# Altium footprint library power_supply.PcbLib: 21 footprints (part 2 of 2)
Each footprint in its own frame and in the unit in brackets; x right, y up, seen from the top. Pads: shape width x height; smd on the part's side, far side on the other; paste and mask are expansions set on the pad; w line width, h text height; cw(c..) or ccw(c..) is an arc to the next point about the centre after c.
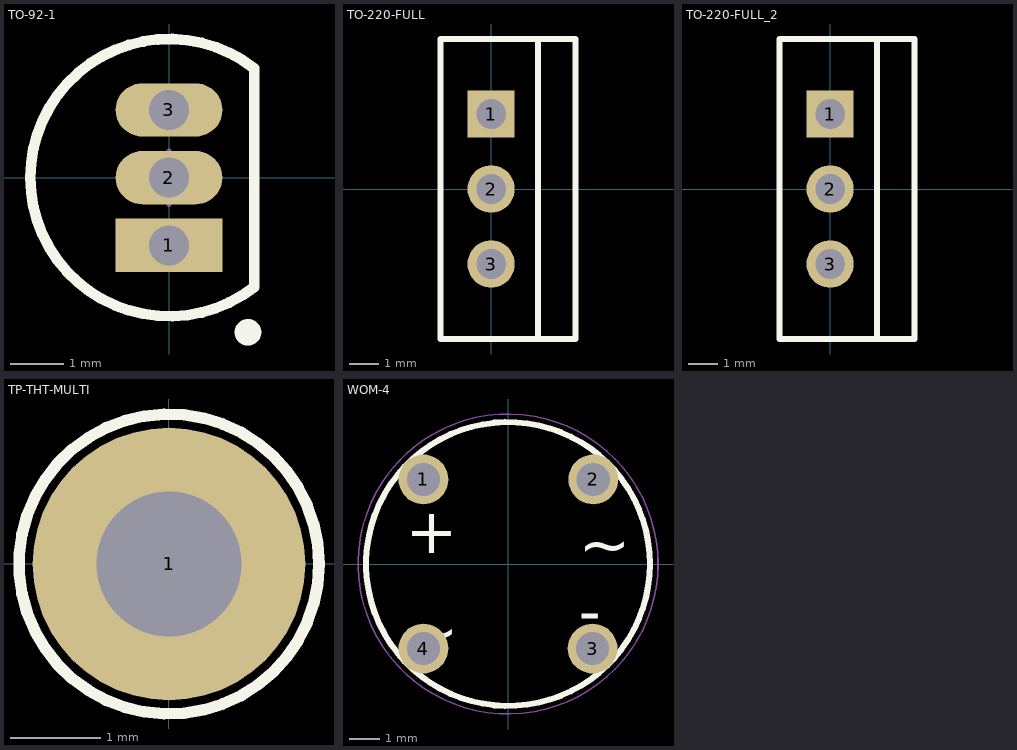
[diagram p1: the footprints below, top view; thin cyan lines are the x and y axes]

## TO-92-1 [mm]
pads (3):
  rect 2x1 hole 0.75: 1(0,-1.27)
  oval 2x1 hole 0.75: 2(0,0) 3(0,1.27)
Top Overlay:
  circle w0.25: c1.48,-2.9 r0.125
  lines w0.2: 1.601,-2.049 cw(c0,0) 1.601,2.049 1.6,-2.049
Mechanical 13:
  lines w0.1: 1.601,-2.049 cw(c0,0) 1.601,2.049 1.6,-2.049
Mechanical 15:
  lines w0.1: -0.5,0 0.5,0 ; 0,-0.5 0,0.5
3D body "TO-92-1.step": height 6.47, standoff -6.03, extent -2.494,-2.515 1.376,2.484

## TO-220-FULL [mm]
pads (3):
  rect 1.6x1.6 / inner round 1.524 / far side rect 1.6x1.6 hole 1 paste+0 mask+0.051: 1(0,2.54)
  round 1.6 / inner round 1.524 / far side round 1.6 hole 1 paste+0 mask+0.051: 2(0,0) 3(0,-2.54)
Top Overlay:
  lines w0.2: 1.588,-5.08 -1.714,-5.08 -1.714,5.08 1.588,5.08 ; 1.588,-5.08 1.588,5.08 ; 1.588,-5.08 2.858,-5.08 2.858,5.08 1.588,5.08
Mechanical 13:
  lines w0.1: 1.588,-5.08 2.858,-5.08 2.858,5.08 1.588,5.08 ; 1.588,-5.08 1.588,5.08 ; 1.588,-5.08 -1.714,-5.08 -1.714,5.08 1.588,5.08
3D body: height 0.25, standoff 0, extent 0,0 0.254,0.254
3D body "KCS0003B.stp": height 19.35, standoff -9.01, extent -1.649,-4.826 2.921,5.334

## TO-220-FULL_2 [mm]
pads (3):
  rect 1.6x1.6 / inner round 1.524 / far side rect 1.6x1.6 hole 1 paste+0 mask+0.051: 1(0,2.54)
  round 1.6 / inner round 1.524 / far side round 1.6 hole 1 paste+0 mask+0.051: 2(0,0) 3(0,-2.54)
Top Overlay:
  lines w0.2: 1.588,-5.08 -1.714,-5.08 -1.714,5.08 1.588,5.08 ; 1.588,-5.08 1.588,5.08 ; 1.588,-5.08 2.858,-5.08 2.858,5.08 1.588,5.08
Mechanical 13:
  lines w0.1: 1.588,-5.08 2.858,-5.08 2.858,5.08 1.588,5.08 ; 1.588,-5.08 1.588,5.08 ; 1.588,-5.08 -1.714,-5.08 -1.714,5.08 1.588,5.08
3D body: height 0.25, standoff 0, extent 0,0 0.254,0.254
3D body "KCS0003B.stp": height 19.35, standoff -9.01, extent -1.649,-4.826 2.921,5.334

## TP-THT-MULTI [mm]
pads (1):
  round 3 hole 1.6: 1(0,0)
Top Overlay:
  circle w0.127: c0,0 r1.651
Mechanical 13:
  circle w0.076: c0,0 r0.76
3D body "TestPoint_Multi.stp": height 8.09, standoff -3.21, extent -1.597,-1.6 1.597,1.587

## WOM-4 [mm]
pads (4):
  round 1.65 hole 1.1 mask-25.4: 1(-2.8,2.8) 2(2.825,2.8) 3(2.8,-2.8) 4(-2.8,-2.8)
Top Overlay:
  circle w0.2: c0,0 r4.7
  text "+" at -3.378,0.356 h1.5
  text "~" at -3.353,-2.972 h1.5
  text "~" at 2.337,-0.076 h1.5
  text "-" at 2.337,-2.286 h1.5
Top Solder:
  region: 2.8,-1.867 2.559,-1.899 2.334,-1.992 2.14,-2.14 1.992,-2.334 1.899,-2.559 1.867,-2.8 1.899,-3.041 1.992,-3.266 2.14,-3.46 2.334,-3.608 2.559,-3.701 2.8,-3.733 3.041,-3.701 3.266,-3.608 3.46,-3.46 3.608,-3.266 3.701,-3.041 3.733,-2.8 3.701,-2.559 3.608,-2.334 3.46,-2.14 3.266,-1.992 3.041,-1.899
  region: -2.8,-1.867 -3.041,-1.899 -3.266,-1.992 -3.46,-2.14 -3.608,-2.334 -3.701,-2.559 -3.733,-2.8 -3.701,-3.041 -3.608,-3.266 -3.46,-3.46 -3.266,-3.608 -3.041,-3.701 -2.8,-3.733 -2.559,-3.701 -2.334,-3.608 -2.14,-3.46 -1.992,-3.266 -1.899,-3.041 -1.867,-2.8 -1.899,-2.559 -1.992,-2.334 -2.14,-2.14 -2.334,-1.992 -2.559,-1.899
  region: 2.825,3.733 2.584,3.701 2.359,3.608 2.165,3.46 2.017,3.266 1.924,3.041 1.892,2.8 1.924,2.559 2.017,2.334 2.165,2.14 2.359,1.992 2.584,1.899 2.825,1.867 3.066,1.899 3.291,1.992 3.485,2.14 3.633,2.334 3.726,2.559 3.758,2.8 3.726,3.041 3.633,3.266 3.485,3.46 3.291,3.608 3.066,3.701
  region: -2.8,3.733 -3.041,3.701 -3.266,3.608 -3.46,3.46 -3.608,3.266 -3.701,3.041 -3.733,2.8 -3.701,2.559 -3.608,2.334 -3.46,2.14 -3.266,1.992 -3.041,1.899 -2.8,1.867 -2.559,1.899 -2.334,1.992 -2.14,2.14 -1.992,2.334 -1.899,2.559 -1.867,2.8 -1.899,3.041 -1.992,3.266 -2.14,3.46 -2.334,3.608 -2.559,3.701
Bottom Solder:
  region: 2.8,-1.867 2.559,-1.899 2.334,-1.992 2.14,-2.14 1.992,-2.334 1.899,-2.559 1.867,-2.8 1.899,-3.041 1.992,-3.266 2.14,-3.46 2.334,-3.608 2.559,-3.701 2.8,-3.733 3.041,-3.701 3.266,-3.608 3.46,-3.46 3.608,-3.266 3.701,-3.041 3.733,-2.8 3.701,-2.559 3.608,-2.334 3.46,-2.14 3.266,-1.992 3.041,-1.899
  region: -2.8,-1.867 -3.041,-1.899 -3.266,-1.992 -3.46,-2.14 -3.608,-2.334 -3.701,-2.559 -3.733,-2.8 -3.701,-3.041 -3.608,-3.266 -3.46,-3.46 -3.266,-3.608 -3.041,-3.701 -2.8,-3.733 -2.559,-3.701 -2.334,-3.608 -2.14,-3.46 -1.992,-3.266 -1.899,-3.041 -1.867,-2.8 -1.899,-2.559 -1.992,-2.334 -2.14,-2.14 -2.334,-1.992 -2.559,-1.899
  region: 2.825,3.733 2.584,3.701 2.359,3.608 2.165,3.46 2.017,3.266 1.924,3.041 1.892,2.8 1.924,2.559 2.017,2.334 2.165,2.14 2.359,1.992 2.584,1.899 2.825,1.867 3.066,1.899 3.291,1.992 3.485,2.14 3.633,2.334 3.726,2.559 3.758,2.8 3.726,3.041 3.633,3.266 3.485,3.46 3.291,3.608 3.066,3.701
  region: -2.8,3.733 -3.041,3.701 -3.266,3.608 -3.46,3.46 -3.608,3.266 -3.701,3.041 -3.733,2.8 -3.701,2.559 -3.608,2.334 -3.46,2.14 -3.266,1.992 -3.041,1.899 -2.8,1.867 -2.559,1.899 -2.334,1.992 -2.14,2.14 -1.992,2.334 -1.899,2.559 -1.867,2.8 -1.899,3.041 -1.992,3.266 -2.14,3.46 -2.334,3.608 -2.559,3.701
Mechanical 1:
  circle w0.05: c0,0 r4.967
3D body "AM106.step": height 5.53, standoff -4.07, extent -4.7,-4.675 4.7,4.725